# Altium schematic symbol library QuectelLibrary.SchLib: 1 symbol
Pins are listed as number, name and electrical type; pins without a type are passive.

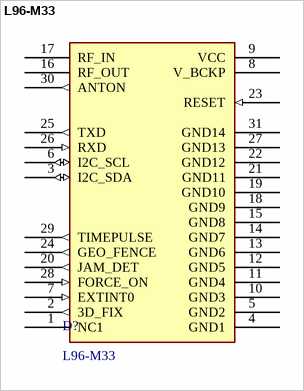
[diagram p0: symbol L96-M33]

## L96-M33
designator D?
GPS Receiver 1602.5625MHz 2.7V to 2.9V 31-Pin SMD; Manufacturer: Quectel; Supplier 1: Digi-Key; Manufacturer Part Number: L96-M33; Stock 1: 0; Pricing 1: 1=13.57, 10=12.279, 25=11.3092, 100=10.34, 250=9.6938 (USD); Supplier Part Number 1: 2958-L96-M33CT-ND
pins: 1 NC1, 2 3D_FIX (out), 3 I2C_SDA (io), 4 GND1 (power), 5 GND2 (power), 6 I2C_SCL (io), 7 EXTINT0 (in), 8 V_BCKP (power), 9 VCC (power), 10 GND3 (power), 11 GND4 (power), 12 GND5 (power), 13 GND6 (power), 14 GND7 (power), 15 GND8 (power), 16 RF_OUT, 17 RF_IN, 18 GND9 (power), 19 GND10 (power), 20 JAM_DET (out), 21 GND11 (power), 22 GND12 (power), 23 RESET (in), 24 GEO_FENCE (out), 25 TXD (out), 26 RXD (in), 27 GND13 (power), 28 FORCE_ON (in), 29 TIMEPULSE (out), 30 ANTON (out), 31 GND14 (power)